# Altium footprint library WE-HCIT.PcbLib: 2 footprints
Each footprint in its own frame and in the unit in brackets; x right, y up, seen from the top. Pads: shape width x height; smd on the part's side, far side on the other; paste and mask are expansions set on the pad; w line width, h text height; cw(c..) or ccw(c..) is an arc to the next point about the centre after c.
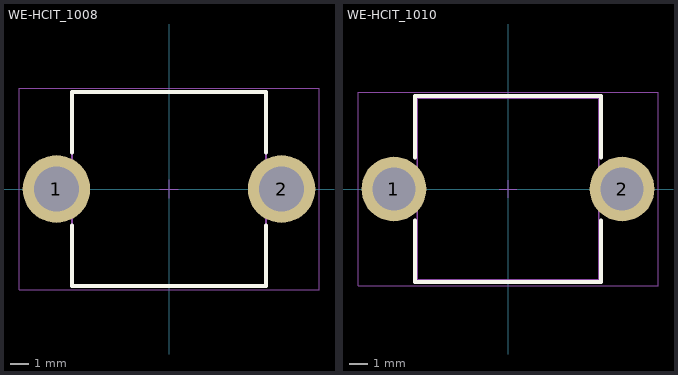
[diagram p0: the footprints below, top view; thin cyan lines are the x and y axes]

## WE-HCIT_1008 [mm] "High Current Inductor THT, body 10.35x10.35mm"
height 7.8
pads (2):
  round 3.6 hole 2.4: 1(-6,0) 2(6,0)
Top Overlay:
  lines w0.2: -5.175,-1.95 -5.175,-5.175 5.175,-5.175 5.175,-1.95 ; -5.175,1.95 -5.175,5.175 5.175,5.175 5.175,1.95
Top Designator:
  text ".Designator" at -7.498,-0.5 h1.5
Top Component Outline:
  lines w0.1: -5.175,-5.175 -5.175,5.175 5.175,5.175 5.175,-5.175 -5.175,-5.175
Top 3D Body:
  lines w0.1: -5.175,-5.175 -5.175,5.175 5.175,5.175 5.175,-5.175 -5.175,-5.175
Top Courtyard:
  lines w0.05: -0.5,0 0.5,0 ; 0,-0.5 0,0.5 ; -8,-5.375 -8,5.375 8,5.375 8,-5.375 -8,-5.375
3D body "78432018003.stp": height 7.85, standoff -3.25, extent -6.831,-4.925 6.831,5.175

## WE-HCIT_1010 [mm] "High Current Inductor THT, body 10.1x10.1mm"
height 9.45
pads (2):
  round 3.6 hole 2.4: 1(-6.35,0) 2(6.35,0)
Top Overlay:
  lines w0.2: -5.175,-1.75 -5.175,-5.175 5.175,-5.175 5.175,-1.75 ; -5.175,1.75 -5.175,5.175 5.175,5.175 5.175,1.75
Top Designator:
  text ".Designator" at -7.498,-0.5 h1.5
Top Component Outline:
  lines w0.1: -5.05,-5.05 5.05,-5.05 5.05,5.05 -5.05,5.05 -5.05,-5.05
Top 3D Body:
  lines w0.1: -5.05,-5.05 5.05,-5.05 5.05,5.05 -5.05,5.05 -5.05,-5.05
Top Courtyard:
  lines w0.05: -0.5,0 0.5,0 ; 0,-0.5 0,0.5 ; -8.35,-5.375 8.35,-5.375 8.35,5.375 -8.35,5.375 -8.35,-5.375
3D body "IndHCIT_1010.stp": height 9.5, standoff -3.25, extent -7.072,-5.05 7.072,5.05